# Altium footprint library openrex_addon_V1.PcbLib: 13 footprints
Each footprint in its own frame and in the unit in brackets; x right, y up, seen from the top. Pads: shape width x height; smd on the part's side, far side on the other; paste and mask are expansions set on the pad; w line width, h text height; cw(c..) or ccw(c..) is an arc to the next point about the centre after c.
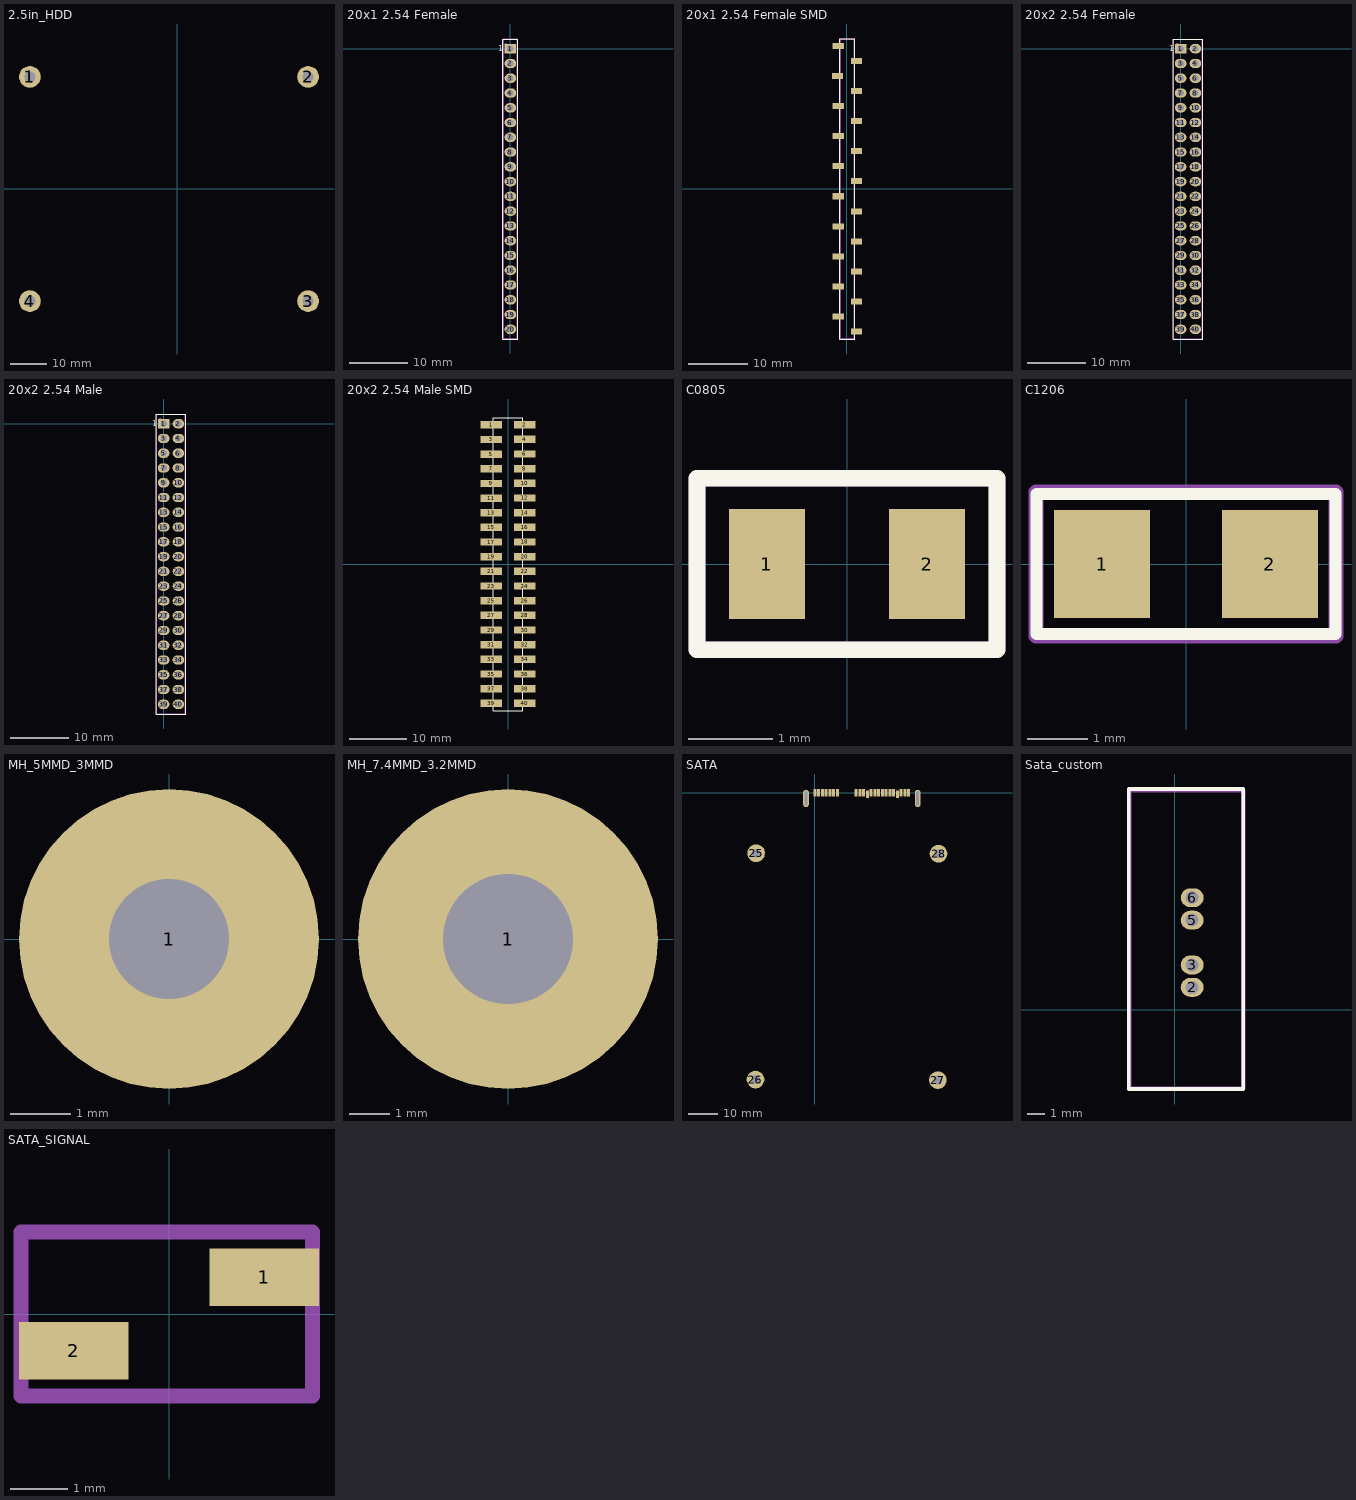
[diagram p0: the footprints below, top view; thin cyan lines are the x and y axes]

## 2.5in_HDD [mm]
pads (4):
  round 6 hole 3: 1(-40.64,30.81) 2(35.96,30.81) 3(35.96,-30.912) 4(-40.64,-30.912)
3D body "Standard 520 model.STEP": height 7.01, standoff 0.01, extent -50.023,-34.925 50.277,34.925

## 20x1 2.54 Female [mm]
pads (20):
  rect 2x1.6 hole 1.1: 1(0,0)
  oval 2x1.6 hole 1.1: 2(0,-2.54) 3(0,-5.08) 4(0,-7.62) 5(0,-10.16) 6(0,-12.7) 7(0,-15.24) 8(0,-17.78) 9(0,-20.32) 10(0,-22.86) 11(0,-25.4) 12(0,-27.94) 13(0,-30.48) 14(0,-33.02) 15(0,-35.56) 16(0,-38.1) 17(0,-40.64) 18(0,-43.18) 19(0,-45.72) 20(0,-48.26)
Top Overlay:
  lines w0.2: -1.3,-49.93 1.3,-49.93 1.3,1.67 -1.3,1.67 -1.3,-49.93
  text "1" at -2.12,-0.4 h1.02
Bottom Overlay:
  lines w0.2: -1.3,-49.93 -1.3,1.67 1.3,1.67 1.3,-49.93 -1.3,-49.93
  text "1" at -0.82,2.2 h1.02
Mechanical 29:
  circle w0.254: c-0.8,0.79 r0.1
  lines w0.254: -1.2,-49.85 1.2,-49.85 1.2,1.59 -1.2,1.59 -1.2,-49.85
  text ".Designator" at 0.78,-25.4 h1.52
3D body "ESQ-120-12-G-S-LL.stp": height 10.81, standoff -2.53, extent -1.27,-49.784 1.27,1.524

## 20x1 2.54 Female SMD [mm]
pads (20):
  rect 1.9x1.02 smd: 1(-1.499,24.13) 2(1.6,21.59) 3(-1.6,19.05) 4(1.6,16.51) 5(-1.499,13.97) 6(1.6,11.43) 7(-1.499,8.89) 8(1.6,6.35) 9(-1.499,3.81) 10(1.6,1.27) 11(-1.499,-1.27) 12(1.6,-3.81) 13(-1.499,-6.35) 14(1.6,-8.89) 15(-1.499,-11.43) 16(1.6,-13.97) 17(-1.499,-16.51) 18(1.6,-19.05) 19(-1.499,-21.59) 20(1.6,-24.13)
Top Overlay:
  lines w0.2: -1.263,-25.4 1.337,-25.4 1.337,25.311 -1.263,25.311 -1.263,-25.4
Mechanical 29:
  circle w0.254: c-0.763,24.431 r0.1
  lines w0.254: -1.163,-25.4 1.237,-25.4 1.237,25.231 -1.163,25.231 -1.163,-25.4
  text ".Designator" at 0.817,-1.759 h1.52
3D body "SSM-120-S-SV.stp": height 7.51, standoff 0.01, extent -2.235,-25.4 2.337,25.4

## 20x2 2.54 Female [mm]
pads (40):
  rect 2x1.6 hole 1.1: 1(0,0)
  oval 2x1.6 hole 1.1: 2(2.54,0) 3(0,-2.54) 4(2.54,-2.54) 5(0,-5.08) 6(2.54,-5.08) 7(0,-7.62) 8(2.54,-7.62) 9(0,-10.16) 10(2.54,-10.16) 11(0,-12.7) 12(2.54,-12.7) 13(0,-15.24) 14(2.54,-15.24) 15(0,-17.78) 16(2.54,-17.78) 17(0,-20.32) 18(2.54,-20.32) 19(0,-22.86) 20(2.54,-22.86) 21(0,-25.4) 22(2.54,-25.4) 23(0,-27.94) 24(2.54,-27.94) 25(0,-30.48) 26(2.54,-30.48) 27(0,-33.02) 28(2.54,-33.02) 29(0,-35.56) 30(2.54,-35.56) 31(0,-38.1) 32(2.54,-38.1) 33(0,-40.64) 34(2.54,-40.64) 35(0,-43.18) 36(2.54,-43.18) 37(0,-45.72) 38(2.54,-45.72) 39(0,-48.26) 40(2.54,-48.26)
Top Overlay:
  lines w0.2: -1.3,-49.93 3.84,-49.93 3.84,1.67 -1.3,1.67 -1.3,-49.93
  text "1" at -2,-0.41 h1.02
Bottom Overlay:
  lines w0.2: -1.3,-49.93 -1.3,1.67 3.84,1.67 3.84,-49.93 -1.3,-49.93
  text "1" at -1.65,-0.5 h1.02
Mechanical 30:
  circle w0.5: c-0.6,0.6 r0.1
  lines w0.2: -1.2,-49.85 3.74,-49.85 3.74,1.59 -1.2,1.59 -1.2,-49.85
  text ".Designator" at 0.6,-25.6 h1.52
3D body "ESW-120-12-G-D-LL.stp": height 10.81, standoff -2.53, extent -1.397,-49.784 3.683,1.524

## 20x2 2.54 Male [mm]
pads (40):
  rect 2x1.6 hole 1.1: 1(0,0)
  oval 2x1.6 hole 1.1: 2(2.54,0) 3(0,-2.54) 4(2.54,-2.54) 5(0,-5.08) 6(2.54,-5.08) 7(0,-7.62) 8(2.54,-7.62) 9(0,-10.16) 10(2.54,-10.16) 11(0,-12.7) 12(2.54,-12.7) 13(0,-15.24) 14(2.54,-15.24) 15(0,-17.78) 16(2.54,-17.78) 17(0,-20.32) 18(2.54,-20.32) 19(0,-22.86) 20(2.54,-22.86) 21(0,-25.4) 22(2.54,-25.4) 23(0,-27.94) 24(2.54,-27.94) 25(0,-30.48) 26(2.54,-30.48) 27(0,-33.02) 28(2.54,-33.02) 29(0,-35.56) 30(2.54,-35.56) 31(0,-38.1) 32(2.54,-38.1) 33(0,-40.64) 34(2.54,-40.64) 35(0,-43.18) 36(2.54,-43.18) 37(0,-45.72) 38(2.54,-45.72) 39(0,-48.26) 40(2.54,-48.26)
Top Overlay:
  lines w0.2: -1.3,-49.93 3.84,-49.93 3.84,1.67 -1.3,1.67 -1.3,-49.93
  text "1" at -2,-0.41 h1.02
Bottom Overlay:
  lines w0.2: -1.3,-49.93 -1.3,1.67 3.84,1.67 3.84,-49.93 -1.3,-49.93
  text "1" at -1.65,-0.5 h1.02
Mechanical 30:
  circle w0.5: c-0.6,0.6 r0.1
  lines w0.2: -1.2,-49.85 3.74,-49.85 3.74,1.59 -1.2,1.59 -1.2,-49.85
  text ".Designator" at 0.6,-25.6 h1.52
3D body "TSW-120-24-G-D.stp": height 9.28, standoff -2.91, extent -1.27,-49.53 3.81,1.27

## 20x2 2.54 Male SMD [mil]
pads (40):
  rect 144.88x50 smd: 1(-113.5,949) 2(113.5,950) 3(-113.5,849.05) 4(113.5,850) 5(-113.5,749.1) 6(113.5,750) 7(-113.5,649.16) 8(113.5,650) 9(-113.5,549.21) 10(113.5,550) 11(-113.5,449.26) 12(113.5,450) 13(-113.5,349.31) 14(113.5,350) 15(-113.5,249.37) 16(113.5,250) 17(-113.5,149.42) 18(113.5,150) 19(-113.5,49.47) 20(113.5,50) 21(-113.5,-50.47) 22(113.5,-50) 23(-113.5,-150.42) 24(113.5,-150) 25(-113.5,-250.37) 26(113.5,-250) 27(-113.5,-350.32) 28(113.5,-350) 29(-113.5,-450.26) 30(113.5,-450) 31(-113.5,-550.21) 32(113.5,-550) 33(-113.5,-650.16) 34(113.5,-650) 35(-113.5,-750.11) 36(113.5,-750) 37(-113.5,-850.05) 38(113.5,-850) 39(-113.5,-950) 40(113.5,-950)
Top Overlay:
  lines w7.87: -100.68,-1000 -100.68,997.75 101.68,997.75 101.68,-1000 -100.68,-1000
3D body "TSM-120-01-T-DV.stp": height 380.5, standoff 0.5, extent -151.5,-1000 151.5,1000

## C0805 [mm]
pads (2):
  rect 0.9x1.3 smd: 1(-0.95,0) 2(0.95,0)
Top Overlay:
  lines w0.2: -1.778,-1.016 1.778,-1.016 1.778,1.016 -1.778,1.016 -1.778,-1.016
Mechanical 29:
  lines w0.2: -1.778,-1.016 -1.778,1.016 1.778,1.016 1.778,-1.016 -1.778,-1.016
  text ".Designator" at -0.508,-0.254 h0.6
3D body "CAPC2012X95N EIA 0805.step": height 0.96, standoff 0.01, extent -0.898,-0.6 1.102,0.6

## C1206 [mm]
pads (2):
  rect 1.6x1.8 smd: 1(-1.4,0) 2(1.4,0)
Top Overlay:
  lines w0.2: -2.489,-1.168 -2.489,1.168 2.489,1.168 2.489,-1.168 -2.489,-1.168
Mechanical 29:
  lines w0.254: -2.5,-1.2 2.5,-1.2 2.5,1.2 -2.5,1.2 -2.5,-1.2
  text ".Designator" at -1.2,-0.3 h1
3D body "User Library-1206 SMD Capacitor.step": height 1.01, standoff 0.01, extent -1.6,-0.8 1.6,0.8

## MH_5MMD_3MMD [mm]
pads (1):
  round 5 / inner round 3.683 / far side round 5 hole 2: 1(0,0)

## MH_7.4MMD_3.2MMD [mm]
pads (1):
  round 7.4 / inner round 3.683 / far side round 7.4 hole 3.2 mask+0.025: 1(0,0)

## SATA [mm]
pads (28):
  rect 1x2.55 smd: 1(0,0) 2(1.27,0) 3(2.54,0) 4(3.81,0) 5(5.08,0) 6(6.35,0) 7(7.62,0) 8(13.97,0) 9(15.24,0) 10(16.51,0) 11(17.78,-0.5) 12(19.05,0) 13(20.32,0) 14(21.59,0) 15(22.86,0) 16(24.13,0) 17(25.4,0) 18(26.67,0) 19(27.94,-0.5) 20(29.21,0) 21(30.48,0) 22(31.75,0)
  rrect100% 1.95x5.85 hole 0.83 slot 4.75 at 90 deg: 23(-2.997,-1.905) 24(34.773,-1.905)
  round 6 hole 3: 25(-19.863,-20.447) 26(-20.091,-97.028) 27(41.605,-97.206) 28(41.834,-20.625)
3D body "sata+hdd.step": height 8, standoff -1.95, extent -24.197,-106.643 45.999,1.966

## Sata_custom [mm]
pads (4):
  oval 1.3x1.07 hole 0.74: 2(1,1.27) 3(1,2.54) 5(1,5.08) 6(1,6.35)
Top Overlay:
  lines w0.2: -2.6,-4.49 -2.6,12.51 3.9,12.51 3.9,-4.49 -2.6,-4.49
Mechanical 29:
  lines w0.254: -2.555,-4.47 3.895,-4.47 3.895,12.43 -2.555,12.43 -2.555,-4.47
  text ".Designator" at -0.7,3.05 h1.52
3D body "TMS-102-57-G-S.stp": height 13.47, standoff -3.04, extent -0.254,4.445 2.184,6.985
3D body "TMS-102-57-G-S.stp": height 13.47, standoff -3.04, extent -0.203,0.635 2.235,3.175

## SATA_SIGNAL [mm]
pads (2):
  rect 1.9x1 smd: 1(1.651,0.635) 2(-1.651,-0.635)
Mechanical 29:
  lines w0.254: -2.565,-1.422 -2.565,1.422 2.489,1.422 2.489,-1.422 -2.565,-1.422
  text ".Designator" at -2.311,0.305 h1
3D body "FTR-102-01-L-S.stp": height 9.66, standoff 0.01, extent -2.489,-1.27 2.489,1.27